# Altium schematic symbol library MBRS540T3G.SchLib: 1 symbol
Pins are listed as number, name and electrical type; pins without a type are passive.

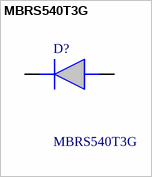
[diagram p0: symbol MBRS540T3G]

## MBRS540T3G
designator D?
Compact Surface Mountable Package with J-Bend leads; Rectangular Package for Automated Handling; Highly Stable Oxide Passivated Junction; Excellent Ability to Withstand Reverse Avalanche Energy Transients; Guardring for Stress Protection; Cathode Lead Indicated by polarity Notch; ESD Ratings, Machine Model = C, Human Body Model = 3B; Device Meets MSL 1 Requirements; Pb-Free Package is Available; AEC-Q101 Qualified and PPAP Capable; NRVB Prefix for Automotive and Other Applications Requiring Unique Site and; Manufacturer_Name: onsemi; Geometry.Height: 2.56mm; Farnell Part Number: *; Farnell Price/Stock: *; Manufacturer_Part_Number: MBRS540T3G; Datasheet Link: https://www.onsemi.com/pub/Collateral/MBRS540T3-D.PDF
footprint DIOM7958X256N
pins: 1 K, 2 A